# EAGLE library part 68612214122 (library Eagle_FPC_CONNECTOR_AND_FFC_CAB (rev18c))
WR-FPC 1.00mm SMT ZIF Horizontal Top Contact, 22 Pins=>Code : Con_FPC_ZIF_1.00_68612214122 <http://katalog.we-online.de/media/images/eican/Con_FPC_ZIF_1.00_6861xx14122_pf2.jpg> Details see: http://katalog.we-online.de/en/em/686_1xx_141_22 Created 2014-07-09, Karrer Zheng 2014 (C) Würth Elektronik
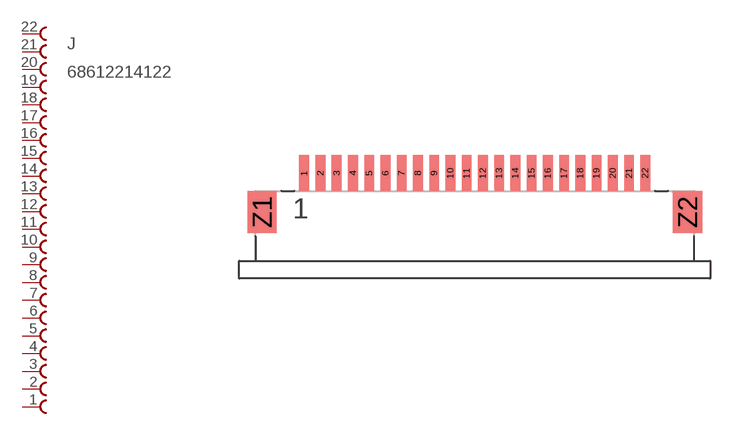
[diagram p48: symbol with the pads of 68612214122; footprint 68612214122]

Designator prefix J

## 68612214122  [68612214122]
1  22  pas
2  21  pas
3  20  pas
4  19  pas
5  18  pas
6  17  pas
7  16  pas
8  15  pas
9  14  pas
10  13  pas
11  12  pas
12  11  pas
13  10  pas
14  9  pas
15  8  pas
16  7  pas
17  6  pas
18  5  pas
19  4  pas
20  3  pas
21  2  pas
22  1  pas

## Footprint 68612214122 (pad centres in mm)
WR-FPC 1.00mm SMT ZIF Horizontal Top Contact, 22 Pins
smd 0.6 x 2.2: 1 -10.5,2.4; 2 -9.5,2.4; 3 -8.5,2.4; 4 -7.5,2.4; 5 -6.5,2.4; 6 -5.5,2.4; 7 -4.5,2.4; 8 -3.5,2.4; 9 -2.5,2.4; 10 -1.5,2.4; 11 -0.5,2.4; 12 0.5,2.4; 13 1.5,2.4; 14 2.5,2.4; 15 3.5,2.4; 16 4.5,2.4; 17 5.5,2.4; 18 6.5,2.4; 19 7.5,2.4; 20 8.5,2.4; 21 9.5,2.4; 22 10.5,2.4
smd 1.8 x 2.6: Z1 -13.1,0; Z2 13.1,0